# Altium footprint library 5_2301994_8.PcbLib: 1 footprints
Each footprint in its own frame and in the unit in brackets; x right, y up, seen from the top. Pads: shape width x height; smd on the part's side, far side on the other; paste and mask are expansions set on the pad; w line width, h text height; cw(c..) or ccw(c..) is an arc to the next point about the centre after c.
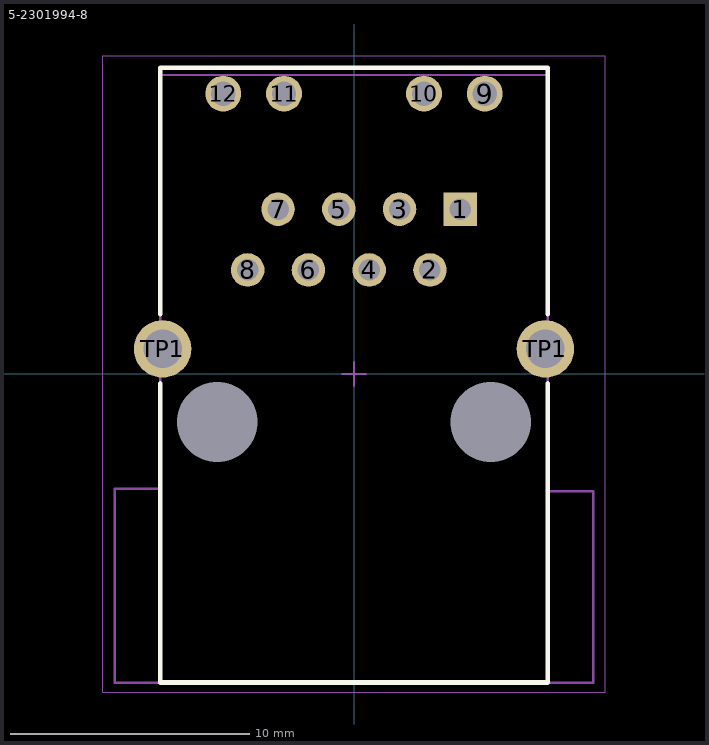
[diagram p0: the footprint, top view; thin cyan lines are the x and y axes]

## 5-2301994-8 [mm]
height 13.5
pads (16):
  rect 1.4x1.4 hole 0.9: 1(4.445,6.89)
  round 1.4 hole 0.9: 2(3.175,4.35) 3(1.905,6.89) 4(0.635,4.35) 5(-0.635,6.89) 6(-1.905,4.35) 7(-3.175,6.89) 8(-4.445,4.35)
  round 1.5 hole 1.02: 9(5.465,11.72) 10(2.925,11.72) 11(-2.925,11.72) 12(-5.465,11.72)
  round 2.4 hole 1.6: TP1(-8,1.05) TP1(8,1.05)
  round 0 hole 3.35: ""(-5.715,-2) ""(5.715,-2)
Top Overlay:
  lines w0.2: -8.1,-0.4 -8.1,-12.9 8.1,-12.9 8.1,-0.4 ; -8.1,2.5 -8.1,12.8 8.1,12.8 8.1,2.5
Top Comment:
  text ".Comment" at 1,14 h1.2
Top Designator:
  text ".Designator" at -0.5,14 h1.2
Top Component Outline:
  lines w0.1: -10,-12.9 -10,-4.8 -8.1,-4.8 -8.1,-0.3 -8.1,2.4 -8.1,12.5 8.1,12.5 8.1,2.4 8.1,-0.3 8.1,-4.9 10,-4.9 10,-12.9 -10,-12.9
Top Courtyard (Mech15):
  lines w0.05: -10.5,-13.3 -10.5,13.3 10.5,13.3 10.5,-13.3 -10.5,-13.3
  lines w0.1: -0.5,0 0.5,0 ; 0,-0.5 0,0.5
3D body "c-5-2301994-8-a-3d.stp": height 15.15, standoff -3.22, extent -9.373,-12.945 9.373,12.5